# EAGLE library part LIS3DE_LIS3DE (library pendulum_control_board)
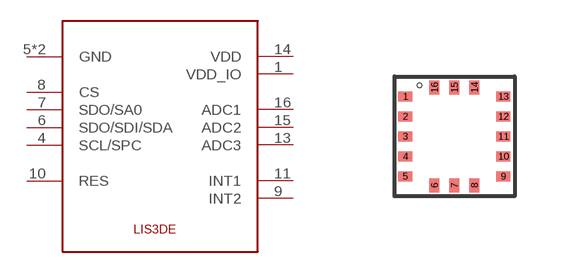
[diagram p5: symbol with the pads of LIS3DE_LGA-16; footprint LIS3DE_LGA-16]

Designator prefix -

## LIS3DE_LIS3DE  [LIS3DE_LGA-16]
1  VDD_IO
4  SCL/SPC
5  GND
6  SDO/SDI/SDA
7  SDO/SA0
8  CS
9  INT2
10  RES
11  INT1
12  GND
13  ADC3
14  VDD
15  ADC2
16  ADC1

## Footprint LIS3DE_LGA-16 (pad centres in mm)
LGA-16 3x3x1.1
smd 0.35 x 0.25: 1 -1.225,1; 2 -1.225,0.5; 3 -1.225,0; 4 -1.225,-0.5; 5 -1.225,-1; 9 1.225,-1; 10 1.225,-0.5; 11 1.225,0; 12 1.225,0.5; 13 1.225,1
smd 0.25 x 0.35: 6 -0.5,-1.225; 7 0,-1.225; 8 0.5,-1.225; 14 0.5,1.225; 15 0,1.225; 16 -0.5,1.225